# Altium footprint library JST_BM02B-SRSS-TB(LF)(SN).PcbLib: 1 footprints
Each footprint in its own frame and in the unit in brackets; x right, y up, seen from the top. Pads: shape width x height; smd on the part's side, far side on the other; paste and mask are expansions set on the pad; w line width, h text height; cw(c..) or ccw(c..) is an arc to the next point about the centre after c.
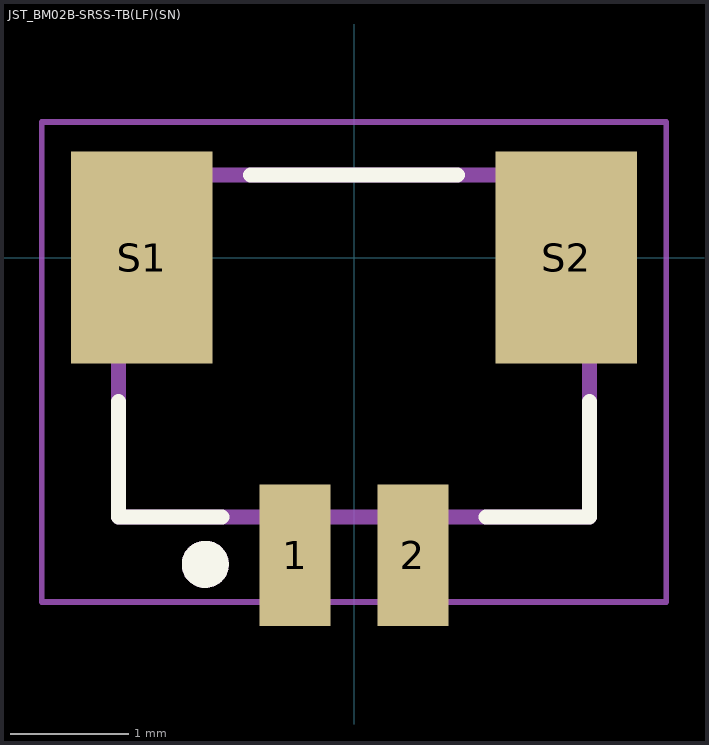
[diagram p0: the footprint, top view; thin cyan lines are the x and y axes]

## JST_BM02B-SRSS-TB(LF)(SN) [mm]
height 6.3
pads (4):
  rect 0.6x1.2 smd: 1(-0.5,-2.525) 2(0.5,-2.525)
  rect 1.2x1.8 smd: S1(-1.8,0) S2(1.8,0)
Top Overlay:
  circle w0.2: c-1.262,-2.603 r0.1
  lines w0.127: -2,-1.22 -2,-2.2 -1.12,-2.2 ; -0.88,0.7 0.88,0.7 ; 1.12,-2.2 2,-2.2 2,-1.22
Mechanical 13:
  circle w0.2: c-1.262,-2.603 r0.1
  lines w0.127: -2,-2.2 -2,0.7 2,0.7 2,-2.2 -2,-2.2
Mechanical 15:
  lines w0.05: -2.65,-2.921 2.65,-2.921 2.65,1.15 -2.65,1.15 -2.65,-2.921
3D body "BM02B-SRSS-TB -LF--SN---3DModel-STEP-56544.STEP": height 4.25, standoff 0, extent -1.968,-2.435 2.032,1.165